# Altium schematic symbol library con-phoenix-508.SCHLIB: 76 symbols
Pins are listed as number, name and electrical type; pins without a type are passive.

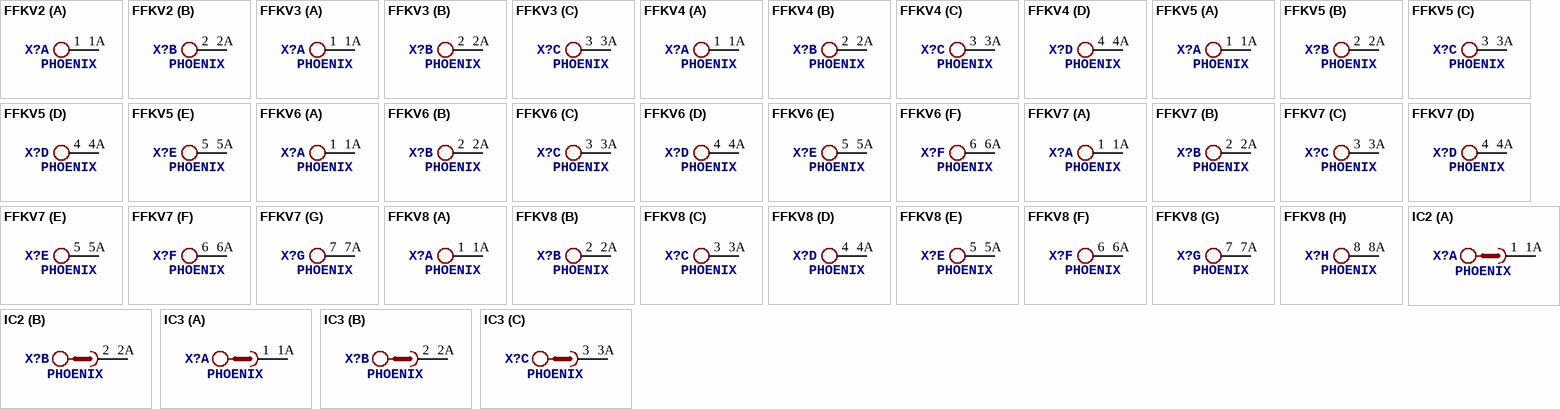
[diagram p0: symbols FFKV2 to IC3]

## FFKV2
designator X?, comment PHOENIX
OC_FARNELL: unknown; OC_NEWARK: unknown
footprint FFKV2
part A pins: 1, 1A 2
part B pins: 2 1, 2A 2

## FFKV3
designator X?, comment PHOENIX
OC_FARNELL: unknown; OC_NEWARK: unknown
footprint FFKV3
part A pins: 1, 1A 2
part B pins: 2 1, 2A 2
part C pins: 3 1, 3A 2

## FFKV4
designator X?, comment PHOENIX
OC_FARNELL: unknown; OC_NEWARK: unknown
footprint FFKV4
part A pins: 1, 1A 2
part B pins: 2 1, 2A 2
part C pins: 3 1, 3A 2
part D pins: 4 1, 4A 2

## FFKV5
designator X?, comment PHOENIX
OC_FARNELL: unknown; OC_NEWARK: unknown
footprint FFKV5
part A pins: 1, 1A 2
part B pins: 2 1, 2A 2
part C pins: 3 1, 3A 2
part D pins: 4 1, 4A 2
part E pins: 5 1, 5A 2

## FFKV6
designator X?, comment PHOENIX
OC_FARNELL: unknown; OC_NEWARK: unknown
footprint FFKV6
part A pins: 1, 1A 2
part B pins: 2 1, 2A 2
part C pins: 3 1, 3A 2
part D pins: 4 1, 4A 2
part E pins: 5 1, 5A 2
part F pins: 6 1, 6A 2

## FFKV7
designator X?, comment PHOENIX
OC_FARNELL: unknown; OC_NEWARK: unknown
footprint FFKV7
part A pins: 1, 1A 2
part B pins: 2 1, 2A 2
part C pins: 3 1, 3A 2
part D pins: 4 1, 4A 2
part E pins: 5 1, 5A 2
part F pins: 6 1, 6A 2
part G pins: 7 1, 7A 2

## FFKV8
designator X?, comment PHOENIX
OC_FARNELL: unknown; OC_NEWARK: unknown
footprint FFKV8
part A pins: 1, 1A 2
part B pins: 2 1, 2A 2
part C pins: 3 1, 3A 2
part D pins: 4 1, 4A 2
part E pins: 5 1, 5A 2
part F pins: 6 1, 6A 2
part G pins: 7 1, 7A 2
part H pins: 8 1, 8A 2

## IC2
designator X?, comment PHOENIX
OC_FARNELL: unknown; OC_NEWARK: unknown
footprint IC2
part A pins: 1, 1A 2
part B pins: 2 1, 2A 2

## IC3
designator X?, comment PHOENIX
OC_FARNELL: unknown; OC_NEWARK: unknown
footprint IC3
part A pins: 1, 1A 2
part B pins: 2 1, 2A 2
part C pins: 3 1, 3A 2

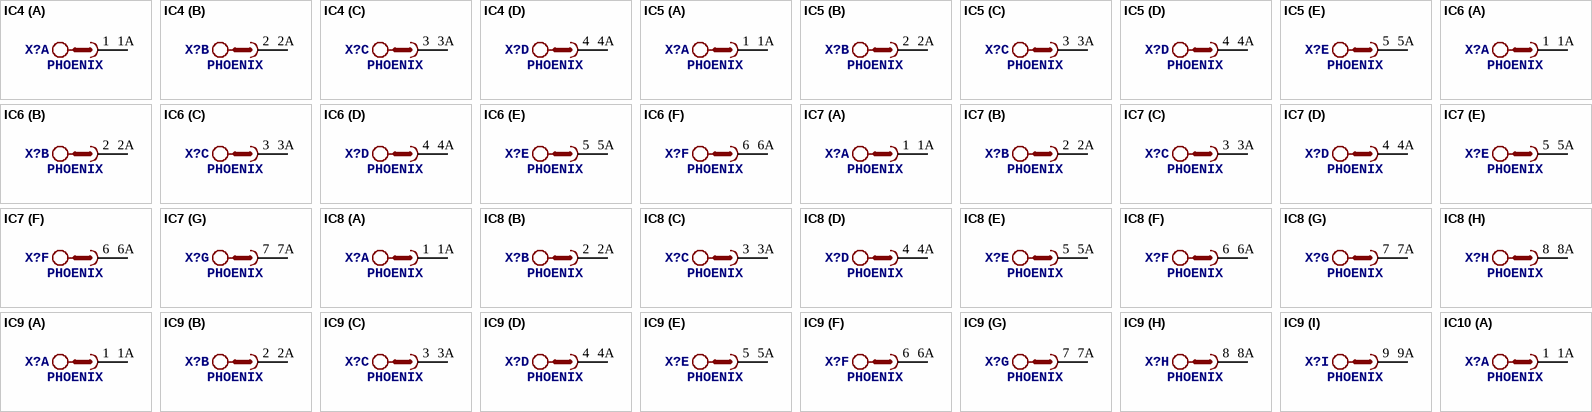
[diagram p1: symbols IC4 to IC10]

## IC4
designator X?, comment PHOENIX
OC_FARNELL: unknown; OC_NEWARK: unknown
footprint IC4
part A pins: 1, 1A 2
part B pins: 2 1, 2A 2
part C pins: 3 1, 3A 2
part D pins: 4 1, 4A 2

## IC5
designator X?, comment PHOENIX
OC_FARNELL: unknown; OC_NEWARK: unknown
footprint IC5
part A pins: 1, 1A 2
part B pins: 2 1, 2A 2
part C pins: 3 1, 3A 2
part D pins: 4 1, 4A 2
part E pins: 5 1, 5A 2

## IC6
designator X?, comment PHOENIX
OC_FARNELL: unknown; OC_NEWARK: unknown
footprint IC6
part A pins: 1, 1A 2
part B pins: 2 1, 2A 2
part C pins: 3 1, 3A 2
part D pins: 4 1, 4A 2
part E pins: 5 1, 5A 2
part F pins: 6 1, 6A 2

## IC7
designator X?, comment PHOENIX
OC_FARNELL: unknown; OC_NEWARK: unknown
footprint IC7
part A pins: 1, 1A 2
part B pins: 2 1, 2A 2
part C pins: 3 1, 3A 2
part D pins: 4 1, 4A 2
part E pins: 5 1, 5A 2
part F pins: 6 1, 6A 2
part G pins: 7 1, 7A 2

## IC8
designator X?, comment PHOENIX
OC_FARNELL: unknown; OC_NEWARK: unknown
footprint IC8
part A pins: 1, 1A 2
part B pins: 2 1, 2A 2
part C pins: 3 1, 3A 2
part D pins: 4 1, 4A 2
part E pins: 5 1, 5A 2
part F pins: 6 1, 6A 2
part G pins: 7 1, 7A 2
part H pins: 8 1, 8A 2

## IC9
designator X?, comment PHOENIX
OC_FARNELL: unknown; OC_NEWARK: unknown
footprint IC9
part A pins: 1, 1A 2
part B pins: 2 1, 2A 2
part C pins: 3 1, 3A 2
part D pins: 4 1, 4A 2
part E pins: 5 1, 5A 2
part F pins: 6 1, 6A 2
part G pins: 7 1, 7A 2
part H pins: 8 1, 8A 2
part I pins: 9 1, 9A 2

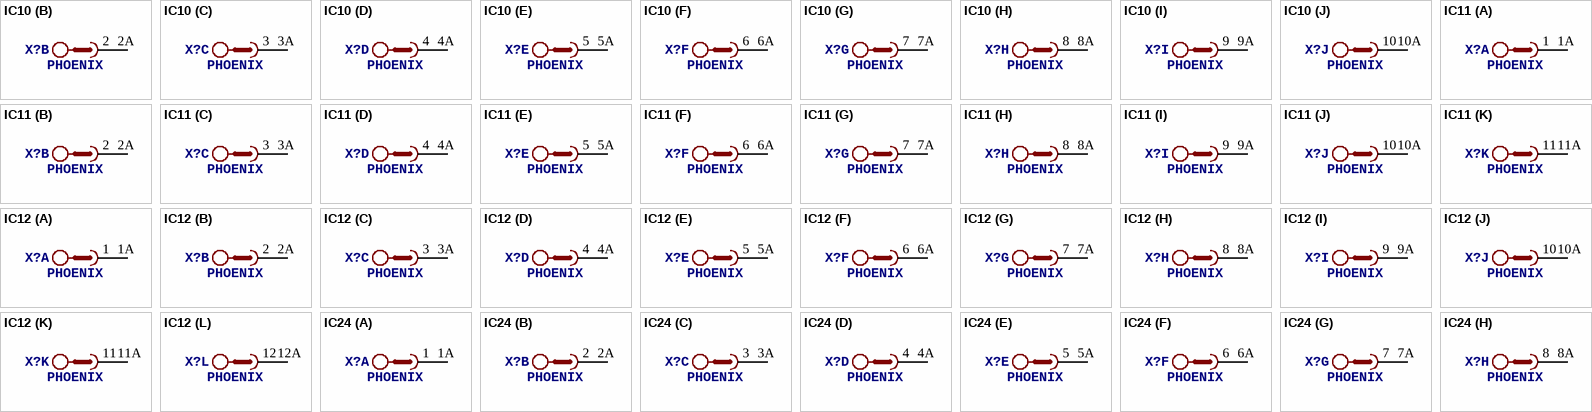
[diagram p2: symbols IC10 to IC24]

## IC10
designator X?, comment PHOENIX
OC_FARNELL: unknown; OC_NEWARK: unknown
footprint IC10
part A pins: 1, 1A 2
part B pins: 2 1, 2A 2
part C pins: 3 1, 3A 2
part D pins: 4 1, 4A 2
part E pins: 5 1, 5A 2
part F pins: 6 1, 6A 2
part G pins: 7 1, 7A 2
part H pins: 8 1, 8A 2
part I pins: 9 1, 9A 2
part J pins: 10 1, 10A 2

## IC11
designator X?, comment PHOENIX
OC_FARNELL: unknown; OC_NEWARK: unknown
footprint IC11
part A pins: 1, 1A 2
part B pins: 2 1, 2A 2
part C pins: 3 1, 3A 2
part D pins: 4 1, 4A 2
part E pins: 5 1, 5A 2
part F pins: 6 1, 6A 2
part G pins: 7 1, 7A 2
part H pins: 8 1, 8A 2
part I pins: 9 1, 9A 2
part J pins: 10 1, 10A 2
part K pins: 11 1, 11A 2

## IC12
designator X?, comment PHOENIX
OC_FARNELL: unknown; OC_NEWARK: unknown
footprint IC12
part A pins: 1, 1A 2
part B pins: 2 1, 2A 2
part C pins: 3 1, 3A 2
part D pins: 4 1, 4A 2
part E pins: 5 1, 5A 2
part F pins: 6 1, 6A 2
part G pins: 7 1, 7A 2
part H pins: 8 1, 8A 2
part I pins: 9 1, 9A 2
part J pins: 10 1, 10A 2
part K pins: 11 1, 11A 2
part L pins: 12 1, 12A 2

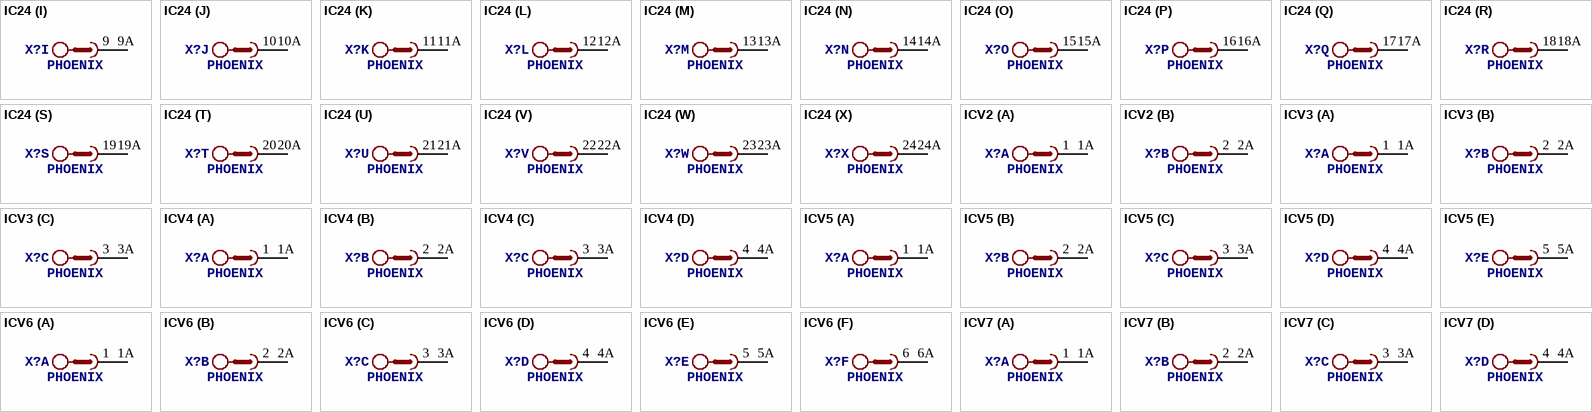
[diagram p3: symbols IC24 to ICV7]

## IC24
designator X?, comment PHOENIX
OC_FARNELL: unknown; OC_NEWARK: unknown
footprint IC24
part A pins: 1, 1A 2
part B pins: 2 1, 2A 2
part C pins: 3 1, 3A 2
part D pins: 4 1, 4A 2
part E pins: 5 1, 5A 2
part F pins: 6 1, 6A 2
part G pins: 7 1, 7A 2
part H pins: 8 1, 8A 2
part I pins: 9 1, 9A 2
part J pins: 10 1, 10A 2
part K pins: 11 1, 11A 2
part L pins: 12 1, 12A 2
part M pins: 13 1, 13A 2
part N pins: 14 1, 14A 2
part O pins: 15 1, 15A 2
part P pins: 16 1, 16A 2
part Q pins: 17 1, 17A 2
part R pins: 18 1, 18A 2
part S pins: 19 1, 19A 2
part T pins: 20 1, 20A 2
part U pins: 21 1, 21A 2
part V pins: 22 1, 22A 2
part W pins: 23 1, 23A 2
part X pins: 24 1, 24A 2

## ICV2
designator X?, comment PHOENIX
OC_FARNELL: unknown; OC_NEWARK: unknown
footprint ICV2
part A pins: 1, 1A 2
part B pins: 2 1, 2A 2

## ICV3
designator X?, comment PHOENIX
OC_FARNELL: unknown; OC_NEWARK: unknown
footprint ICV3
part A pins: 1, 1A 2
part B pins: 2 1, 2A 2
part C pins: 3 1, 3A 2

## ICV4
designator X?, comment PHOENIX
OC_FARNELL: unknown; OC_NEWARK: unknown
footprint ICV4
part A pins: 1, 1A 2
part B pins: 2 1, 2A 2
part C pins: 3 1, 3A 2
part D pins: 4 1, 4A 2

## ICV5
designator X?, comment PHOENIX
OC_FARNELL: unknown; OC_NEWARK: unknown
footprint ICV5
part A pins: 1, 1A 2
part B pins: 2 1, 2A 2
part C pins: 3 1, 3A 2
part D pins: 4 1, 4A 2
part E pins: 5 1, 5A 2

## ICV6
designator X?, comment PHOENIX
OC_FARNELL: unknown; OC_NEWARK: unknown
footprint ICV6
part A pins: 1, 1A 2
part B pins: 2 1, 2A 2
part C pins: 3 1, 3A 2
part D pins: 4 1, 4A 2
part E pins: 5 1, 5A 2
part F pins: 6 1, 6A 2

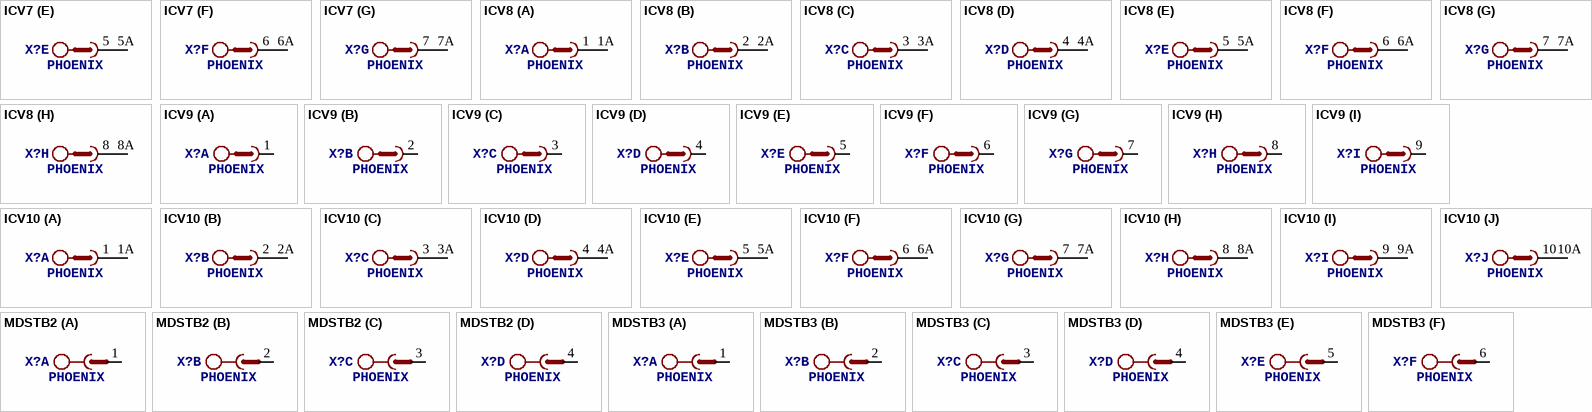
[diagram p4: symbols ICV7 to MDSTB3]

## ICV7
designator X?, comment PHOENIX
OC_FARNELL: unknown; OC_NEWARK: unknown
footprint ICV7
part A pins: 1, 1A 2
part B pins: 2 1, 2A 2
part C pins: 3 1, 3A 2
part D pins: 4 1, 4A 2
part E pins: 5 1, 5A 2
part F pins: 6 1, 6A 2
part G pins: 7 1, 7A 2

## ICV8
designator X?, comment PHOENIX
OC_FARNELL: unknown; OC_NEWARK: unknown
footprint ICV8
part A pins: 1, 1A 2
part B pins: 2 1, 2A 2
part C pins: 3 1, 3A 2
part D pins: 4 1, 4A 2
part E pins: 5 1, 5A 2
part F pins: 6 1, 6A 2
part G pins: 7 1, 7A 2
part H pins: 8 1, 8A 2

## ICV9
designator X?, comment PHOENIX
OC_FARNELL: unknown; OC_NEWARK: unknown
footprint ICV9
part A pins: 1
part B pins: 2 1
part C pins: 3 1
part D pins: 4 1
part E pins: 5 1
part F pins: 6 1
part G pins: 7 1
part H pins: 8 1
part I pins: 9 1

## ICV10
designator X?, comment PHOENIX
OC_FARNELL: unknown; OC_NEWARK: unknown
footprint ICV10
part A pins: 1, 1A 2
part B pins: 2 1, 2A 2
part C pins: 3 1, 3A 2
part D pins: 4 1, 4A 2
part E pins: 5 1, 5A 2
part F pins: 6 1, 6A 2
part G pins: 7 1, 7A 2
part H pins: 8 1, 8A 2
part I pins: 9 1, 9A 2
part J pins: 10 1, 10A 2

## MDSTB2
designator X?, comment PHOENIX
OC_FARNELL: unknown; OC_NEWARK: unknown
footprint MDSTB2
part A pins: 1
part B pins: 2 1
part C pins: 3 1
part D pins: 4 1

## MDSTB3
designator X?, comment PHOENIX
OC_FARNELL: unknown; OC_NEWARK: unknown
footprint MDSTB3
part A pins: 1
part B pins: 2 1
part C pins: 3 1
part D pins: 4 1
part E pins: 5 1
part F pins: 6 1

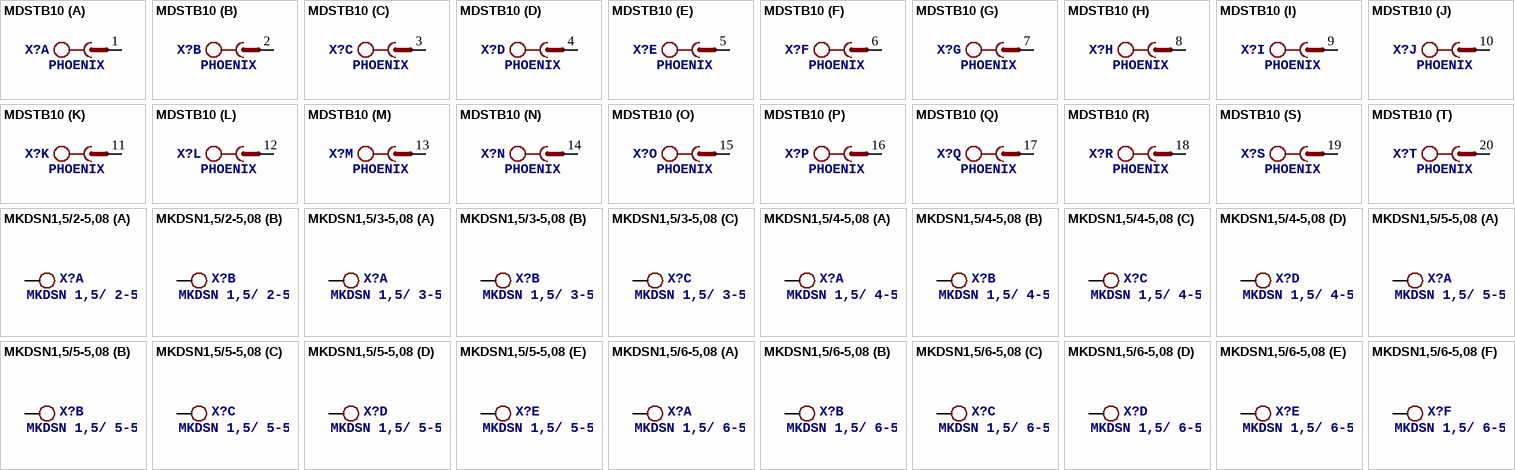
[diagram p5: symbols MDSTB10 to MKDSN1,5/6-5,08]

## MDSTB10
designator X?, comment PHOENIX
OC_FARNELL: unknown; OC_NEWARK: unknown
footprint MDSTB10
part A pins: 1
part B pins: 2 1
part C pins: 3 1
part D pins: 4 1
part E pins: 5 1
part F pins: 6 1
part G pins: 7 1
part H pins: 8 1
part I pins: 9 1
part J pins: 10 1
part K pins: 11 1
part L pins: 12 1
part M pins: 13 1
part N pins: 14 1
part O pins: 15 1
part P pins: 16 1
part Q pins: 17 1
part R pins: 18 1
part S pins: 19 1
part T pins: 20 1

## MKDSN1,5/2-5,08
designator X?, comment MKDSN 1,5/ 2-5,08 Printklemme   Nennstrom: 13,5 A Nennspannung: 250 V Rastermaß: 5,08 mm Polzahl: 2 Anschlussart: Schraubanschluss Montage: Löten Anschlussrichtung Leiter/Platine: 0 ° Artikelnummer: 1729128 Source: http://eshop.phoenixcontact.com .. 1729128.pdf
footprint MKDSN1,5/2-5,08
part A pins: 1 KL
part B pins: 2 KL

## MKDSN1,5/3-5,08
designator X?, comment MKDSN 1,5/ 3-5,08 Printklemme   Nennstrom: 13,5 A Nennspannung: 250 V Rastermaß: 5,08 mm Polzahl: 3 Anschlussart: Schraubanschluss Montage: Löten Anschlussrichtung Leiter/Platine: 0 ° Artikelnummer: 1729131 Source: http://eshop.phoenixcontact.com .. 1729131.pdf
footprint MKDSN1,5/3-5,08
part A pins: 1 KL
part B pins: 2 KL
part C pins: 3 KL

## MKDSN1,5/4-5,08
designator X?, comment MKDSN 1,5/ 4-5,08 Printklemme   Nennstrom: 13,5 A Nennspannung: 250 V Rastermaß: 5,08 mm Polzahl: 4 Anschlussart: Schraubanschluss Montage: Löten Anschlussrichtung Leiter/Platine: 0 ° Artikelnummer: 1729144 Source: http://eshop.phoenixcontact.com .. 1729144.pdf
footprint MKDSN1,5/4-5,08
part A pins: 1 KL
part B pins: 2 KL
part C pins: 3 KL
part D pins: 4 KL

## MKDSN1,5/5-5,08
designator X?, comment MKDSN 1,5/ 5-5,08 Printklemme   Nennstrom: 13,5 A Nennspannung: 250 V Rastermaß: 5,08 mm Polzahl: 5 Anschlussart: Schraubanschluss Montage: Löten Anschlussrichtung Leiter/Platine: 0 ° Artikelnummer: 1729157 Source: http://eshop.phoenixcontact.com .. 1729157.pdf
footprint MKDSN1,5/5-5,08
part A pins: 1 KL
part B pins: 2 KL
part C pins: 3 KL
part D pins: 4 KL
part E pins: 5 KL

## MKDSN1,5/6-5,08
designator X?, comment MKDSN 1,5/ 6-5,08 Printklemme   Nennstrom: 13,5 A Nennspannung: 250 V Rastermaß: 5,08 mm Polzahl: 6 Anschlussart: Schraubanschluss Montage: Löten Anschlussrichtung Leiter/Platine: 0 ° Artikelnummer: 1729160 Source: http://eshop.phoenixcontact.com .. 1729160.pdf
footprint MKDSN1,5/6-5,08
part A pins: 1 KL
part B pins: 2 KL
part C pins: 3 KL
part D pins: 4 KL
part E pins: 5 KL
part F pins: 6 KL

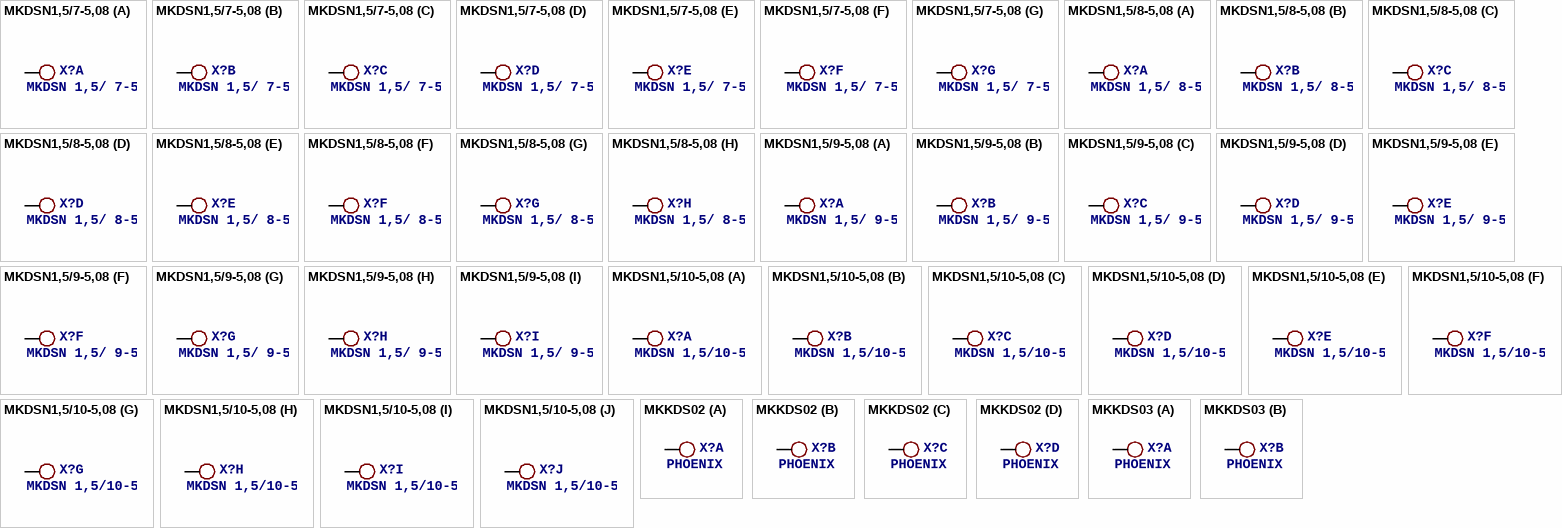
[diagram p6: symbols MKDSN1,5/7-5,08 to MKKDS03]

## MKDSN1,5/7-5,08
designator X?, comment MKDSN 1,5/ 7-5,08 Printklemme   Nennstrom: 13,5 A Nennspannung: 250 V Rastermaß: 5,08 mm Polzahl: 7 Anschlussart: Schraubanschluss Montage: Löten Anschlussrichtung Leiter/Platine: 0 ° Artikelnummer: 1729173 Source: http://eshop.phoenixcontact.com .. 1729173.pdf
footprint MKDSN1,5/7-5,08
part A pins: 1 KL
part B pins: 2 KL
part C pins: 3 KL
part D pins: 4 KL
part E pins: 5 KL
part F pins: 6 KL
part G pins: 7 KL

## MKDSN1,5/8-5,08
designator X?, comment MKDSN 1,5/ 8-5,08 Printklemme   Nennstrom: 13,5 A Nennspannung: 250 V Rastermaß: 5,08 mm Polzahl: 8 Anschlussart: Schraubanschluss Montage: Löten Anschlussrichtung Leiter/Platine: 0 ° Artikelnummer: 1729186 Source: http://eshop.phoenixcontact.com .. 1729186.pdf
footprint MKDSN1,5/8-5,08
part A pins: 1 KL
part B pins: 2 KL
part C pins: 3 KL
part D pins: 4 KL
part E pins: 5 KL
part F pins: 6 KL
part G pins: 7 KL
part H pins: 8 KL

## MKDSN1,5/9-5,08
designator X?, comment MKDSN 1,5/ 9-5,08 Printklemme   Nennstrom: 13,5 A Nennspannung: 250 V Rastermaß: 5,08 mm Polzahl: 9 Anschlussart: Schraubanschluss Montage: Löten Anschlussrichtung Leiter/Platine: 0 ° Artikelnummer: 1729199 Source: http://eshop.phoenixcontact.com .. 1729199.pdf
footprint MKDSN1,5/9-5,08
part A pins: 1 KL
part B pins: 2 KL
part C pins: 3 KL
part D pins: 4 KL
part E pins: 5 KL
part F pins: 6 KL
part G pins: 7 KL
part H pins: 8 KL
part I pins: 9 KL

## MKDSN1,5/10-5,08
designator X?, comment MKDSN 1,5/10-5,08 Printklemme   Nennstrom: 13,5 A Nennspannung: 250 V Rastermaß: 5,08 mm Polzahl: 10 Anschlussart: Schraubanschluss Montage: Löten Anschlussrichtung Leiter/Platine: 0 ° Artikelnummer: 1729209 Source: http://eshop.phoenixcontact.com .. 1729209.pdf
footprint MKDSN1,5/10-5,08
part A pins: 1 KL
part B pins: 2 KL
part C pins: 3 KL
part D pins: 4 KL
part E pins: 5 KL
part F pins: 6 KL
part G pins: 7 KL
part H pins: 8 KL
part I pins: 9 KL
part J pins: 10 KL

## MKKDS02
designator X?, comment PHOENIX
MPN: 1725038; OC_FARNELL: 3041300; OC_NEWARK: 71C4105
footprint MKKDS02
part A pins: 1 KL
part B pins: 2 KL
part C pins: 3 KL
part D pins: 4 KL

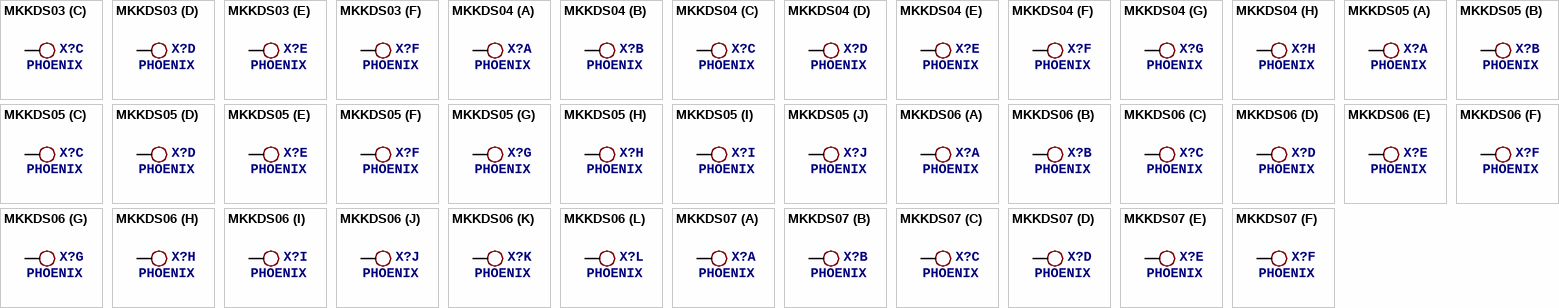
[diagram p7: symbols MKKDS03 to MKKDS07]

## MKKDS03
designator X?, comment PHOENIX
MPN: 1721731; MF: FARNELL; OC_FARNELL: 3041347; OC_NEWARK: 71C4104
footprint MKKDS03
part A pins: 1 KL
part B pins: 2 KL
part C pins: 3 KL
part D pins: 4 KL
part E pins: 5 KL
part F pins: 6 KL

## MKKDS04
designator X?, comment PHOENIX
OC_FARNELL: unknown; OC_NEWARK: unknown
footprint MKKDS04
part A pins: 1 KL
part B pins: 2 KL
part C pins: 3 KL
part D pins: 4 KL
part E pins: 5 KL
part F pins: 6 KL
part G pins: 7 KL
part H pins: 8 KL

## MKKDS05
designator X?, comment PHOENIX
OC_FARNELL: unknown; OC_NEWARK: unknown
footprint MKKDS05
part A pins: 1 KL
part B pins: 2 KL
part C pins: 3 KL
part D pins: 4 KL
part E pins: 5 KL
part F pins: 6 KL
part G pins: 7 KL
part H pins: 8 KL
part I pins: 9 KL
part J pins: 10 KL

## MKKDS06
designator X?, comment PHOENIX
OC_FARNELL: unknown; OC_NEWARK: unknown
footprint MKKDS06
part A pins: 1 KL
part B pins: 2 KL
part C pins: 3 KL
part D pins: 4 KL
part E pins: 5 KL
part F pins: 6 KL
part G pins: 7 KL
part H pins: 8 KL
part I pins: 9 KL
part J pins: 10 KL
part K pins: 11 KL
part L pins: 12 KL

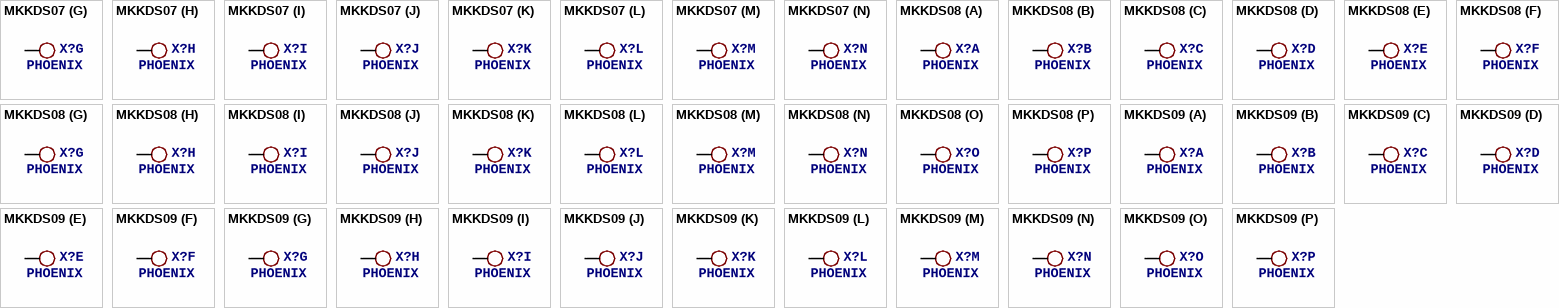
[diagram p8: symbols MKKDS07 to MKKDS09]

## MKKDS07
designator X?, comment PHOENIX
OC_FARNELL: unknown; OC_NEWARK: unknown
footprint MKKDS07
part A pins: 1 KL
part B pins: 2 KL
part C pins: 3 KL
part D pins: 4 KL
part E pins: 5 KL
part F pins: 6 KL
part G pins: 7 KL
part H pins: 8 KL
part I pins: 9 KL
part J pins: 10 KL
part K pins: 11 KL
part L pins: 12 KL
part M pins: 13 KL
part N pins: 14 KL

## MKKDS08
designator X?, comment PHOENIX
OC_FARNELL: unknown; OC_NEWARK: unknown
footprint MKKDS08
part A pins: 1 KL
part B pins: 2 KL
part C pins: 3 KL
part D pins: 4 KL
part E pins: 5 KL
part F pins: 6 KL
part G pins: 7 KL
part H pins: 8 KL
part I pins: 9 KL
part J pins: 10 KL
part K pins: 11 KL
part L pins: 12 KL
part M pins: 13 KL
part N pins: 14 KL
part O pins: 15 KL
part P pins: 16 KL

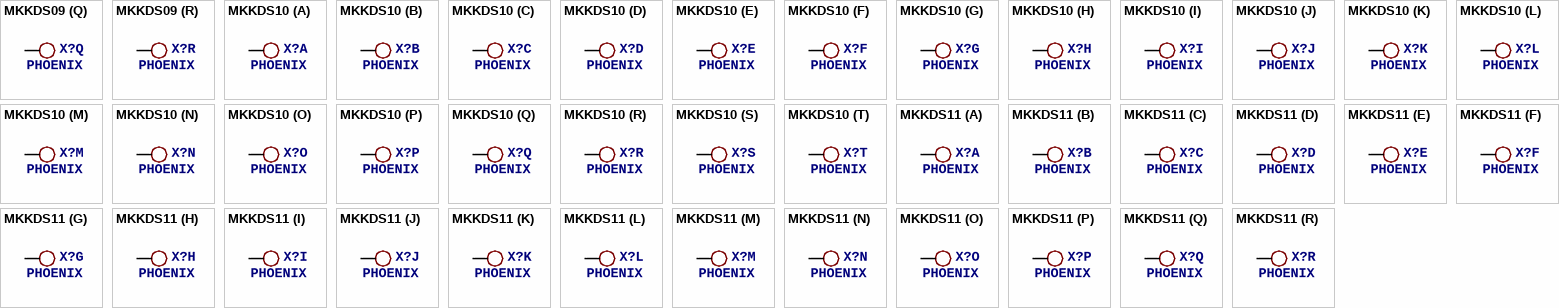
[diagram p9: symbols MKKDS09 to MKKDS11]

## MKKDS09
designator X?, comment PHOENIX
OC_FARNELL: unknown; OC_NEWARK: unknown
footprint MKKDS09
part A pins: 1 KL
part B pins: 2 KL
part C pins: 3 KL
part D pins: 4 KL
part E pins: 5 KL
part F pins: 6 KL
part G pins: 7 KL
part H pins: 8 KL
part I pins: 9 KL
part J pins: 10 KL
part K pins: 11 KL
part L pins: 12 KL
part M pins: 13 KL
part N pins: 14 KL
part O pins: 15 KL
part P pins: 16 KL
part Q pins: 17 KL
part R pins: 18 KL

## MKKDS10
designator X?, comment PHOENIX
OC_FARNELL: unknown; OC_NEWARK: unknown
footprint MKKDS10
part A pins: 1 KL
part B pins: 2 KL
part C pins: 3 KL
part D pins: 4 KL
part E pins: 5 KL
part F pins: 6 KL
part G pins: 7 KL
part H pins: 8 KL
part I pins: 9 KL
part J pins: 10 KL
part K pins: 11 KL
part L pins: 12 KL
part M pins: 13 KL
part N pins: 14 KL
part O pins: 15 KL
part P pins: 16 KL
part Q pins: 17 KL
part R pins: 18 KL
part S pins: 19 KL
part T pins: 20 KL

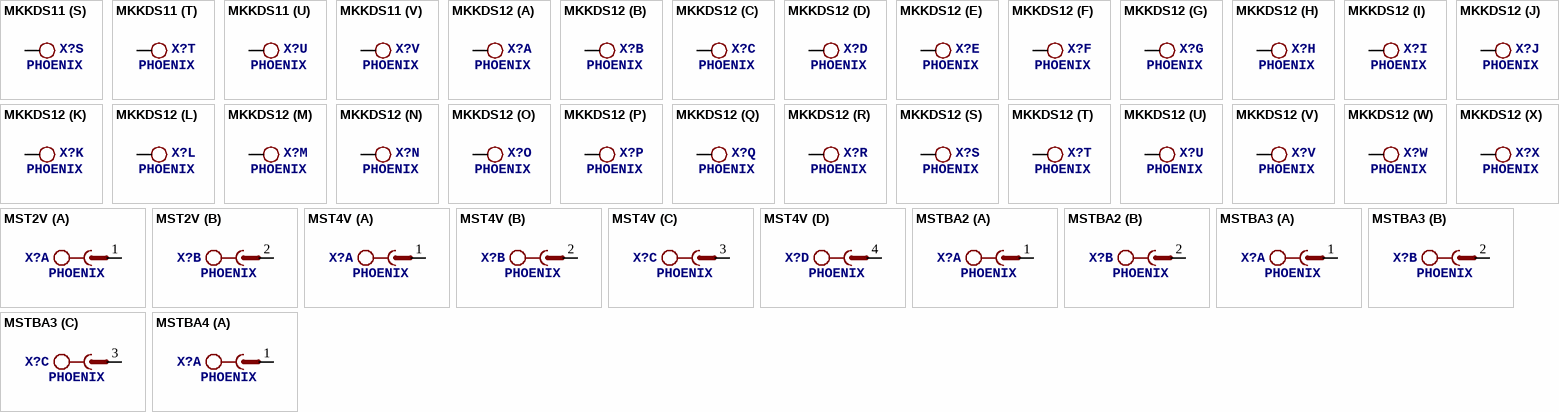
[diagram p10: symbols MKKDS11 to MSTBA4]

## MKKDS11
designator X?, comment PHOENIX
OC_FARNELL: unknown; OC_NEWARK: unknown
footprint MKKDS11
part A pins: 1 KL
part B pins: 2 KL
part C pins: 3 KL
part D pins: 4 KL
part E pins: 5 KL
part F pins: 6 KL
part G pins: 7 KL
part H pins: 8 KL
part I pins: 9 KL
part J pins: 10 KL
part K pins: 11 KL
part L pins: 12 KL
part M pins: 13 KL
part N pins: 14 KL
part O pins: 15 KL
part P pins: 16 KL
part Q pins: 17 KL
part R pins: 18 KL
part S pins: 19 KL
part T pins: 20 KL
part U pins: 21 KL
part V pins: 22 KL

## MKKDS12
designator X?, comment PHOENIX
OC_FARNELL: unknown; OC_NEWARK: unknown
footprint MKKDS12
part A pins: 1 KL
part B pins: 2 KL
part C pins: 3 KL
part D pins: 4 KL
part E pins: 5 KL
part F pins: 6 KL
part G pins: 7 KL
part H pins: 8 KL
part I pins: 9 KL
part J pins: 10 KL
part K pins: 11 KL
part L pins: 12 KL
part M pins: 13 KL
part N pins: 14 KL
part O pins: 15 KL
part P pins: 16 KL
part Q pins: 17 KL
part R pins: 18 KL
part S pins: 19 KL
part T pins: 20 KL
part U pins: 21 KL
part V pins: 22 KL
part W pins: 23 KL
part X pins: 24 KL

## MST2V
designator X?, comment PHOENIX
OC_FARNELL: unknown; OC_NEWARK: unknown
footprint MSTBV2
part A pins: 1
part B pins: 2 1

## MST4V
designator X?, comment PHOENIX
OC_FARNELL: unknown; OC_NEWARK: unknown
footprint MSTBV4
part A pins: 1
part B pins: 2 1
part C pins: 3 1
part D pins: 4 1

## MSTBA2
designator X?, comment PHOENIX
MPN: 1757242; MF: FARNELL; OC_FARNELL: 3705171; OC_NEWARK: 71C4161
footprint MSTBA2
part A pins: 1
part B pins: 2 1

## MSTBA3
designator X?, comment PHOENIX
MPN: 1757255; MF: FARNELL; OC_FARNELL: 3705183; OC_NEWARK: 71C4162
footprint MSTBA3
part A pins: 1
part B pins: 2 1
part C pins: 3 1

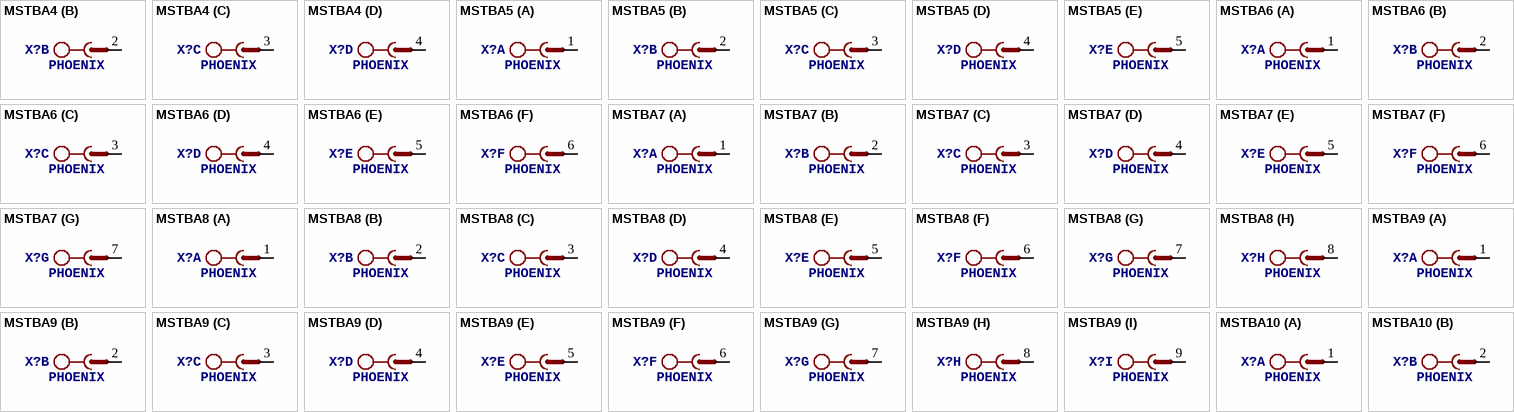
[diagram p11: symbols MSTBA4 to MSTBA10]

## MSTBA4
designator X?, comment PHOENIX
MPN: 1757268; MF: FARNELL; OC_FARNELL: 3705195; OC_NEWARK: 71C4163
footprint MSTBA4
part A pins: 1
part B pins: 2 1
part C pins: 3 1
part D pins: 4 1

## MSTBA5
designator X?, comment PHOENIX
MPN: 1757271; OC_FARNELL: 3705201; OC_NEWARK: 71C4164
footprint MSTBA5
part A pins: 1
part B pins: 2 1
part C pins: 3 1
part D pins: 4 1
part E pins: 5 1

## MSTBA6
designator X?, comment PHOENIX
MPN: 1757284; MF: FARNELL; OC_FARNELL: 3705213; OC_NEWARK: 71C4165
footprint MSTBA6
part A pins: 1
part B pins: 2 1
part C pins: 3 1
part D pins: 4 1
part E pins: 5 1
part F pins: 6 1

## MSTBA7
designator X?, comment PHOENIX
OC_FARNELL: unknown; OC_NEWARK: unknown
footprint MSTBA7
part A pins: 1
part B pins: 2 1
part C pins: 3 1
part D pins: 4 1
part E pins: 5 1
part F pins: 6 1
part G pins: 7 1

## MSTBA8
designator X?, comment PHOENIX
MPN: 1757307; MF: FARNELL; OC_FARNELL: 3705225; OC_NEWARK: 71C4166
footprint MSTBA8
part A pins: 1
part B pins: 2 1
part C pins: 3 1
part D pins: 4 1
part E pins: 5 1
part F pins: 6 1
part G pins: 7 1
part H pins: 8 1

## MSTBA9
designator X?, comment PHOENIX
MPN: 1757310; MF: FARNELL; OC_FARNELL: 3705237; OC_NEWARK: 71C4167
footprint MSTBA9
part A pins: 1
part B pins: 2 1
part C pins: 3 1
part D pins: 4 1
part E pins: 5 1
part F pins: 6 1
part G pins: 7 1
part H pins: 8 1
part I pins: 9 1

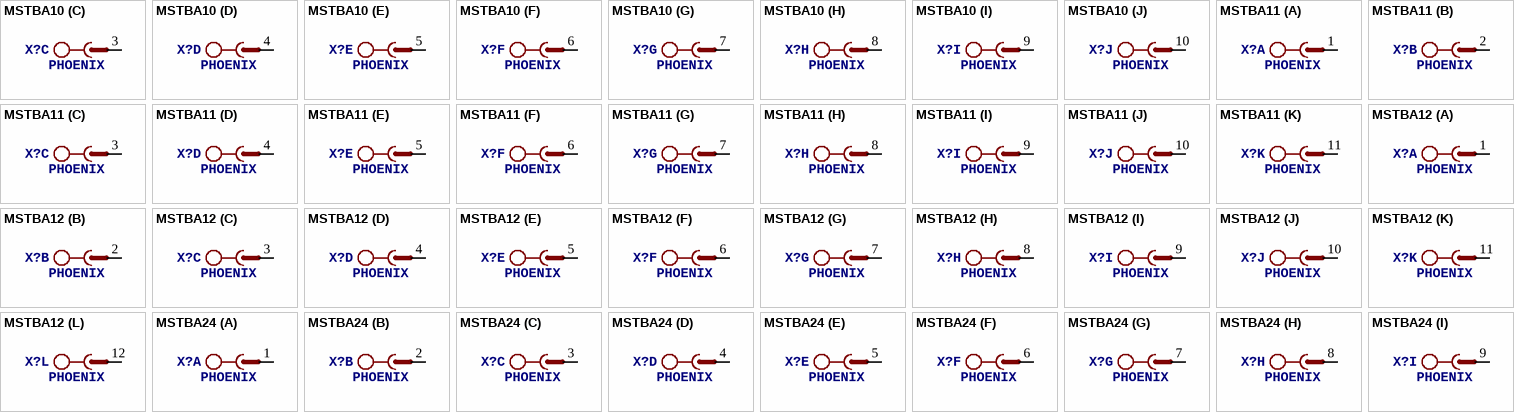
[diagram p12: symbols MSTBA10 to MSTBA24]

## MSTBA10
designator X?, comment PHOENIX
MPN: 1757323; MF: FARNELL; OC_FARNELL: 3705249; OC_NEWARK: 71C4168
footprint MSTBA10
part A pins: 1
part B pins: 2 1
part C pins: 3 1
part D pins: 4 1
part E pins: 5 1
part F pins: 6 1
part G pins: 7 1
part H pins: 8 1
part I pins: 9 1
part J pins: 10 1

## MSTBA11
designator X?, comment PHOENIX
OC_FARNELL: unknown; OC_NEWARK: unknown
footprint MSTBA11
part A pins: 1
part B pins: 2 1
part C pins: 3 1
part D pins: 4 1
part E pins: 5 1
part F pins: 6 1
part G pins: 7 1
part H pins: 8 1
part I pins: 9 1
part J pins: 10 1
part K pins: 11 1

## MSTBA12
designator X?, comment PHOENIX
MPN: 1757349; OC_FARNELL: 3705250; OC_NEWARK: 71C4169
footprint MSTBA12
part A pins: 1
part B pins: 2 1
part C pins: 3 1
part D pins: 4 1
part E pins: 5 1
part F pins: 6 1
part G pins: 7 1
part H pins: 8 1
part I pins: 9 1
part J pins: 10 1
part K pins: 11 1
part L pins: 12 1

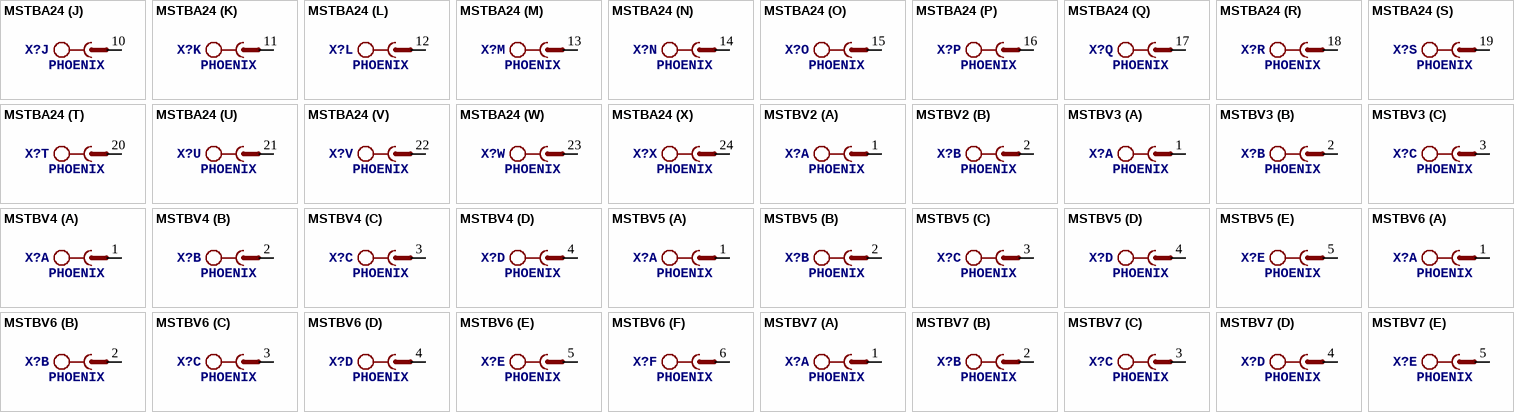
[diagram p13: symbols MSTBA24 to MSTBV7]

## MSTBA24
designator X?, comment PHOENIX
OC_FARNELL: unknown; OC_NEWARK: unknown
footprint MSTBA24
part A pins: 1
part B pins: 2 1
part C pins: 3 1
part D pins: 4 1
part E pins: 5 1
part F pins: 6 1
part G pins: 7 1
part H pins: 8 1
part I pins: 9 1
part J pins: 10 1
part K pins: 11 1
part L pins: 12 1
part M pins: 13 1
part N pins: 14 1
part O pins: 15 1
part P pins: 16 1
part Q pins: 17 1
part R pins: 18 1
part S pins: 19 1
part T pins: 20 1
part U pins: 21 1
part V pins: 22 1
part W pins: 23 1
part X pins: 24 1

## MSTBV2
designator X?, comment PHOENIX
MPN: MSTBV 2,5/2-GF-5.08; OC_FARNELL: 1792792; OC_NEWARK: 69R9845
footprint MSTBV2
part A pins: 1
part B pins: 2 1

## MSTBV3
designator X?, comment PHOENIX
MPN: MSTBV 2,5/3-GF-5.08; OC_FARNELL: 1792793; OC_NEWARK: 69R9846
footprint MSTBV3
part A pins: 1
part B pins: 2 1
part C pins: 3 1

## MSTBV4
designator X?, comment PHOENIX
MPN: MSTBV 2,5/4-GF-5.08; OC_FARNELL: 1792794; OC_NEWARK: 69R9847
footprint MSTBV4
part A pins: 1
part B pins: 2 1
part C pins: 3 1
part D pins: 4 1

## MSTBV5
designator X?, comment PHOENIX
MPN: MSTBV 2,5/5-GF-5.08; OC_FARNELL: 1792795; OC_NEWARK: 69R9848
footprint MSTBV5
part A pins: 1
part B pins: 2 1
part C pins: 3 1
part D pins: 4 1
part E pins: 5 1

## MSTBV6
designator X?, comment PHOENIX
MPN: MSTBV 2,5/6-GF-5.08; OC_FARNELL: 1792796; OC_NEWARK: 69R9849
footprint MSTBV6
part A pins: 1
part B pins: 2 1
part C pins: 3 1
part D pins: 4 1
part E pins: 5 1
part F pins: 6 1

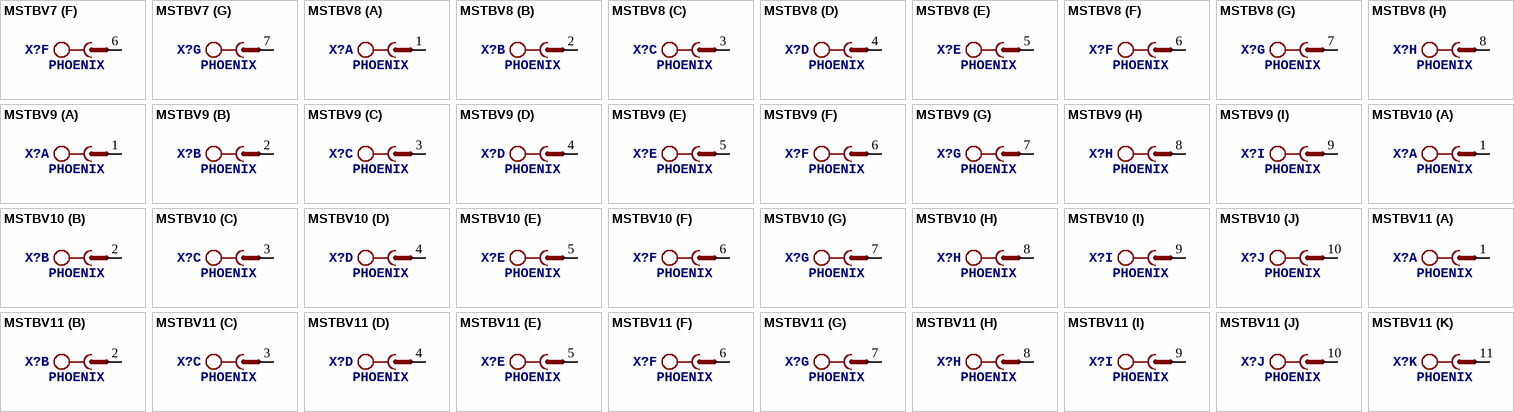
[diagram p14: symbols MSTBV7 to MSTBV11]

## MSTBV7
designator X?, comment PHOENIX
OC_FARNELL: unknown; OC_NEWARK: unknown
footprint MSTBV7
part A pins: 1
part B pins: 2 1
part C pins: 3 1
part D pins: 4 1
part E pins: 5 1
part F pins: 6 1
part G pins: 7 1

## MSTBV8
designator X?, comment PHOENIX
MPN: MSTBV 2,5/8-GF-5.08; OC_FARNELL: 1792797; OC_NEWARK: 69R9850
footprint MSTBV8
part A pins: 1
part B pins: 2 1
part C pins: 3 1
part D pins: 4 1
part E pins: 5 1
part F pins: 6 1
part G pins: 7 1
part H pins: 8 1

## MSTBV9
designator X?, comment PHOENIX
MPN: MSTBVA2,5/9-5,08; MF: FARNELL; OC_FARNELL: 3705328; OC_NEWARK: 71C4149
footprint MSTBV9
part A pins: 1
part B pins: 2 1
part C pins: 3 1
part D pins: 4 1
part E pins: 5 1
part F pins: 6 1
part G pins: 7 1
part H pins: 8 1
part I pins: 9 1

## MSTBV10
designator X?, comment PHOENIX
MPN: MSTBV 2,5/10-GF-5.08; OC_FARNELL: 1792798; OC_NEWARK: 69R9844
footprint MSTBV10
part A pins: 1
part B pins: 2 1
part C pins: 3 1
part D pins: 4 1
part E pins: 5 1
part F pins: 6 1
part G pins: 7 1
part H pins: 8 1
part I pins: 9 1
part J pins: 10 1

## MSTBV11
designator X?, comment PHOENIX
OC_FARNELL: unknown; OC_NEWARK: unknown
footprint MSTBV11
part A pins: 1
part B pins: 2 1
part C pins: 3 1
part D pins: 4 1
part E pins: 5 1
part F pins: 6 1
part G pins: 7 1
part H pins: 8 1
part I pins: 9 1
part J pins: 10 1
part K pins: 11 1

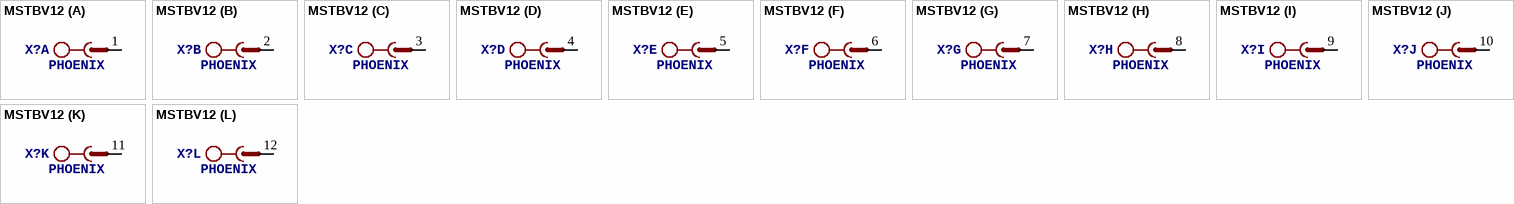
[diagram p15: symbol MSTBV12]

## MSTBV12
designator X?, comment PHOENIX
MPN: MSTBVA2.5/12-G-5.08; OC_FARNELL: 3705341; OC_NEWARK: 69K5694
footprint MSTBV12
part A pins: 1
part B pins: 2 1
part C pins: 3 1
part D pins: 4 1
part E pins: 5 1
part F pins: 6 1
part G pins: 7 1
part H pins: 8 1
part I pins: 9 1
part J pins: 10 1
part K pins: 11 1
part L pins: 12 1